# Altium schematic symbol library EL-sense_LVDS_Interface_IC.SchLib: 2 symbols
Pins are listed as number, name and electrical type; pins without a type are passive.

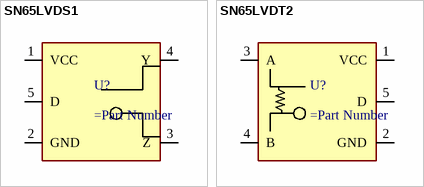
[diagram p0: symbols SN65LVDS1 to SN65LVDT2]

## SN65LVDS1
designator U?
pins: 1 VCC, 2 GND, 3 Z, 4 Y, 5 D

## SN65LVDT2
designator U?
pins: 1 VCC, 2 GND, 3 A, 4 B, 5 D